# Altium schematic symbol library DISPLAYS.SchLib: 2 symbols
Pins are listed as number, name and electrical type; pins without a type are passive.

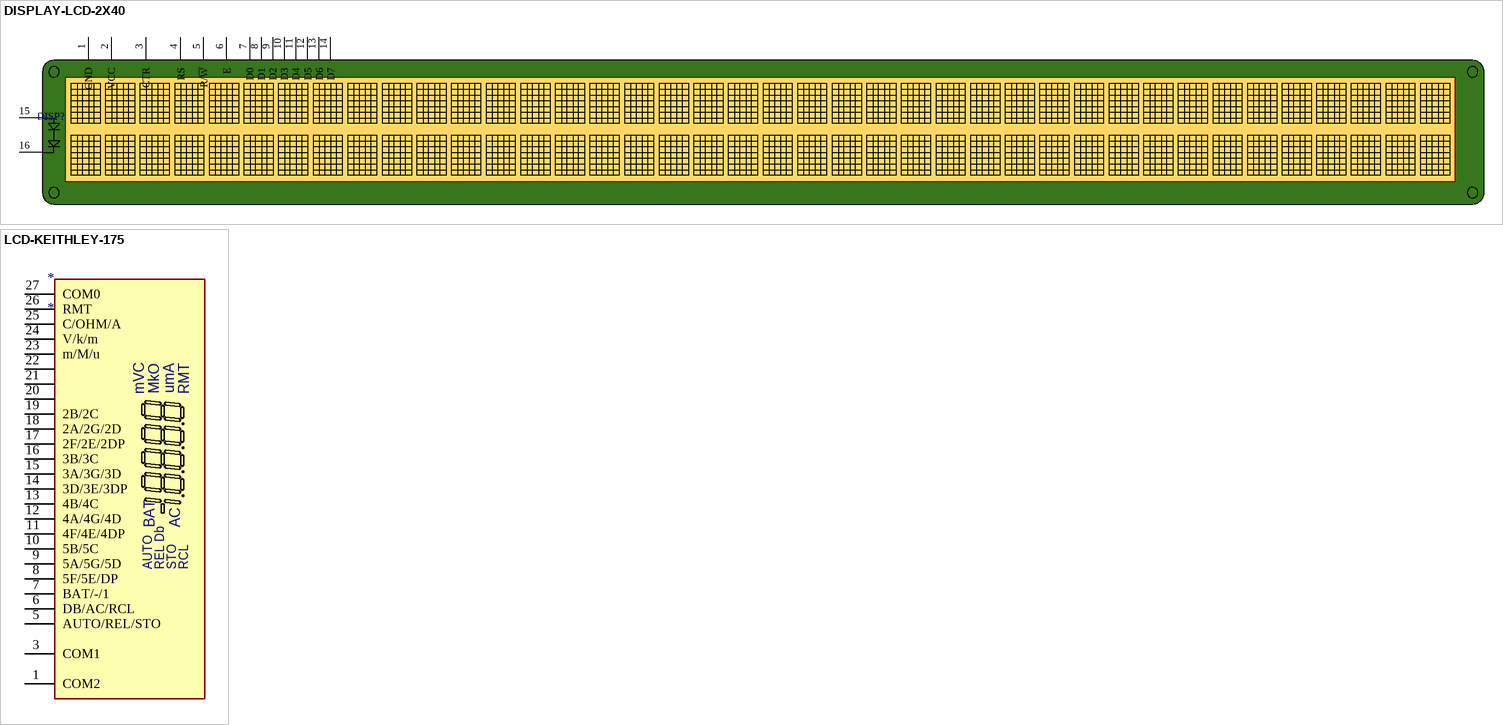
[diagram p0: symbols DISPLAY-LCD-2X40 to LCD-KEITHLEY-175]

## DISPLAY-LCD-2X40
designator DISP?  (value not drawn)
DISPLAY,LCD,ALPHA,2X40CHAR,HD44780,YELLOW BL; LCSC: C429960
footprint CONNECTOR-GENERIC-BOXHEADER-2X8 (CONNECTOR GENERIC-BOXHEADER-2X8)
pins: 1 GND, 2 VCC, 3 CTR, 4 RS, 5 R/~{W}, 6 E, 7 D0, 8 D1, 9 D2, 10 D3, 11 D4, 12 D5, 13 D6, 14 D7, 15 LED+, 16 LED-

## LCD-KEITHLEY-175
designator *
pins: 1 COM2, 3 COM1, 5 AUTO/REL/STO, 6 DB/AC/RCL, 7 BAT/-/1, 8 5F/5E/DP, 9 5A/5G/5D, 10 5B/5C, 11 4F/4E/4DP, 12 4A/4G/4D, 13 4B/4C, 14 3D/3E/3DP, 15 3A/3G/3D, 16 3B/3C, 17 2F/2E/2DP, 18 2A/2G/2D, 19 2B/2C, 20, 21, 22, 23 m/M/u, 24 V/k/m, 25 C/OHM/A, 26 RMT, 27 COM0
text: mVC; MkO; umA; BAT; AC; AUTO; REL Db; STO; RCL